# Altium footprint library DIP-R  0607.PCBLib: 42 footprints (part 2 of 3)
Each footprint in its own frame and in the unit in brackets; x right, y up, seen from the top. Pads: shape width x height; smd on the part's side, far side on the other; paste and mask are expansions set on the pad; w line width, h text height; cw(c..) or ccw(c..) is an arc to the next point about the centre after c.
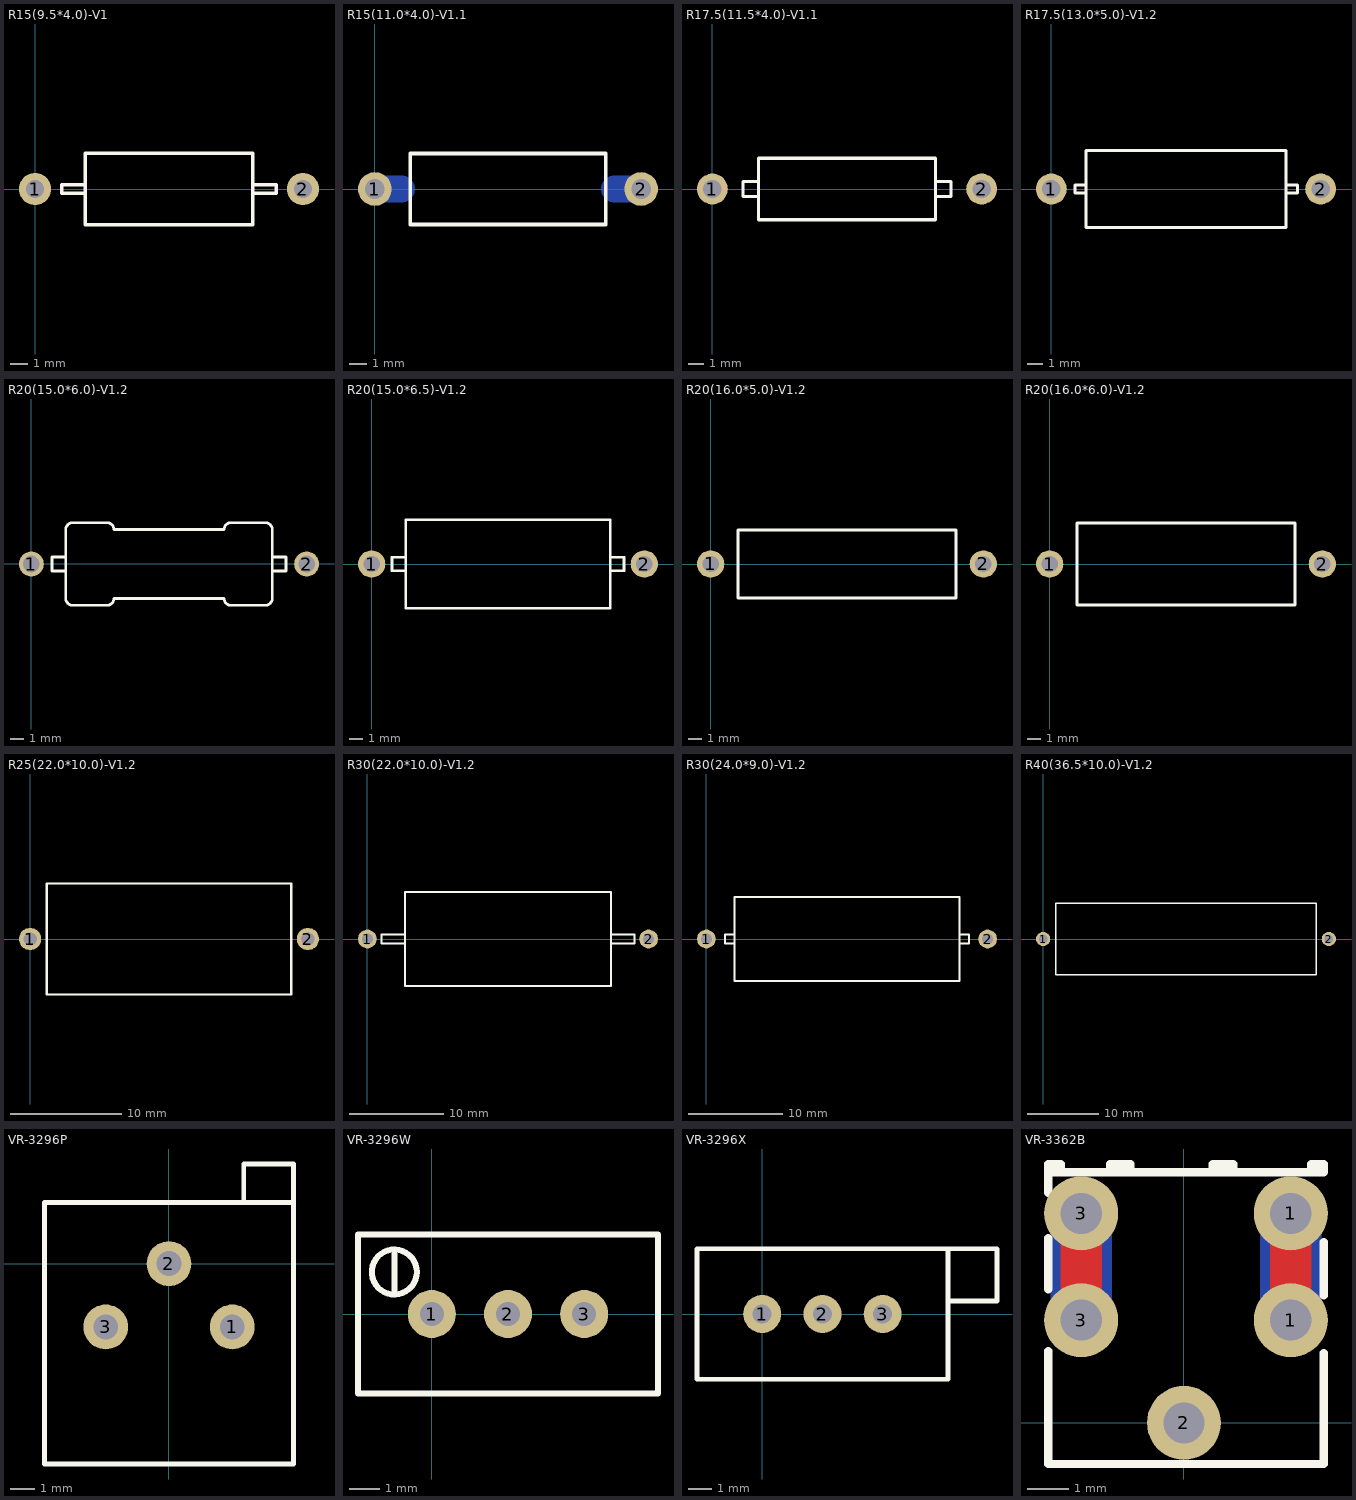
[diagram p1: the footprints below, top view; thin cyan lines are the x and y axes]

## R15(9.5*4.0)-V1 [mm]
height 3.8
pads (2):
  round 1.8 hole 1: 1(0,0) 2(15,0)
Top Overlay:
  lines w0.2: 2.8,-0.25 1.5,-0.25 1.5,0.25 2.8,0.25 ; 12.2,-0.25 13.5,-0.25 13.5,0.25 12.2,0.25 ; 2.8,-2 12.2,-2 12.2,2 2.8,2 2.8,-2

## R15(11.0*4.0)-V1.1 [mm]
height 3.8
pads (2):
  round 1.9 hole 1.1: 1(0,0) 2(15,0)
Bottom Layer:
  lines w1.5: 0,0 1.5,0 ; 13.5,0 15,0
Top Overlay:
  lines w0.2: 2,-2 2,2 13,2 13,-2 2,-2
Bottom Solder:
  lines w1: 0,0 1.5,0 ; 13.5,0 15,0

## R17.5(11.5*4.0)-V1.1 [mm]
height 3.8
pads (2):
  round 2 hole 1.2: 1(0,0) 2(17.5,0)
Top Overlay:
  lines w0.2: 3,-0.5 2,-0.5 2,0.5 3,0.5 ; 14.5,-0.5 15.5,-0.5 15.5,0.5 14.5,0.5 ; 3,-2 3,2 14.5,2 14.5,-2 3,-2

## R17.5(13.0*5.0)-V1.2 [mm]
height 5
pads (2):
  round 2 hole 1.2: 1(0,0) 2(17.5,0)
Top Overlay:
  lines w0.2: 2.25,-0.25 1.525,-0.25 1.525,0.25 2.25,0.25 ; 15.25,-0.25 16,-0.25 16,0.25 15.25,0.25 ; 2.25,-2.5 2.25,2.5 15.25,2.5 15.25,-2.5 2.25,-2.5

## R20(15.0*6.0)-V1.2 [mm]
pads (2):
  round 1.8 hole 1.2: 1(0,-0.005) 2(20,-0.005)
Top Overlay:
  lines w0.2: 2.5,-0.505 1.5,-0.505 1.5,0.495 2.5,0.495 ; 17.5,-0.505 18.5,-0.505 18.5,0.495 17.5,0.495 ; 2.5,-2.505 ccw(c3,-2.505) 3,-3.005 5.5,-3.005 ccw(c5.5,-2.505) 6,-2.505 14,-2.505 ccw(c14.5,-2.505) 14.5,-3.005 17,-3.005 ccw(c17,-2.505) 17.5,-2.505 17.5,2.495 ccw(c17,2.495) 17,2.995 14.5,2.995 ccw(c14.5,2.495) 14,2.495 6,2.495 ccw(c5.5,2.495) 5.5,2.995 3,2.995 ccw(c3,2.495) 2.5,2.495 2.5,-2.505

## R20(15.0*6.5)-V1.2 [mm]
pads (2):
  round 2 hole 1.2: 1(0,0) 2(20,0)
Top Overlay:
  lines w0.2: 2.5,-0.5 1.5,-0.5 1.5,0.5 2.5,0.5 ; 17.5,-0.5 18.5,-0.5 18.5,0.5 17.5,0.5 ; 2.5,-3.25 17.5,-3.25 17.5,3.25 2.5,3.25 2.5,-3.25

## R20(16.0*5.0)-V1.2 [mm]
pads (2):
  round 2 hole 1.2: 1(0.007,0.001) 2(20.007,0.001)
Top Overlay:
  lines w0.2: 2.007,-2.499 2.007,2.501 18.007,2.501 18.007,-2.499 2.007,-2.499

## R20(16.0*6.0)-V1.2 [mm]
height 5.4
pads (2):
  round 2 hole 1.2: 1(0,0) 2(20,0)
Top Overlay:
  lines w0.2: 2,-3 2,3 18,3 18,-3 2,-3

## R25(22.0*10.0)-V1.2 [mm]
height 9
pads (2):
  round 2 hole 1.2: 1(0,0) 2(25,0)
Top Overlay:
  lines w0.2: 1.5,-5 23.5,-5 23.5,5 1.5,5 1.5,-5

## R30(22.0*10.0)-V1.2 [mm]
height 9
pads (2):
  round 2 hole 1.2: 1(0,0) 2(30,0)
Top Overlay:
  lines w0.2: 4,-0.5 1.5,-0.5 1.5,0.5 4,0.5 ; 26,-0.5 28.5,-0.5 28.5,0.5 26,0.5 ; 4,-5 26,-5 26,5 4,5 4,-5

## R30(24.0*9.0)-V1.2 [mm]
pads (2):
  round 2 hole 1.2: 1(0,0) 2(30,0)
Top Overlay:
  lines w0.2: 3,-0.5 2,-0.5 2,0.5 3,0.5 ; 27,-0.5 28,-0.5 28,0.5 27,0.5 ; 3,-4.5 3,4.5 27,4.5 27,-4.5 3,-4.5

## R40(36.5*10.0)-V1.2 [mm]
height 9
pads (2):
  round 2 hole 1.2: 1(0,0) 2(40,0)
Top Overlay:
  lines w0.2: 1.75,-5 1.75,5 38.25,5 38.25,-5 1.75,-5

## VR-3296P [mm]
height 4.83
pads (3):
  round 1.8 hole 1: 1(2.54,-2.54) 2(0,0) 3(-2.54,-2.54)
Top Overlay:
  lines w0.2: 3,2.46 3,4 5,4 5,-8.04 -5,-8.04 -5,2.46 5,2.46

## VR-3296W [mm]
height 12
pads (3):
  round 1.6 hole 0.8: 1(0,0) 2(2.54,0) 3(5.08,0)
Top Overlay:
  circle w0.2: c-1.25,1.4 r0.75
  lines w0.2: -1.25,0.65 -1.25,2 ; -2.46,-2.65 7.54,-2.65 7.54,2.65 -2.46,2.65 -2.46,-2.65
Bottom Overlay:
  lines w0.5: 1.27,-0.8 1.27,0.8 ; 3.81,-0.8 3.81,0.8

## VR-3296X [mm]
height 10
pads (3):
  round 1.6 hole 0.8: 1(0,0) 2(2.54,0) 3(5.08,0)
Top Overlay:
  lines w0.2: 7.83,0.55 9.9,0.55 9.9,2.75 -2.75,2.75 -2.75,-2.75 7.83,-2.75 7.83,2.75
Bottom Overlay:
  lines w0.5: 1.27,-0.8 1.27,0.8 ; 3.81,-0.8 3.81,0.8

## VR-3362B [mm]
pads (5):
  round 1.8 hole 1: 1(2.6,2.5) 1(2.6,5.1) 2(0,0) 3(-2.5,2.5) 3(-2.5,5.1)
Top Layer:
  lines w1: -2.5,2.5 -2.5,5.1 ; 2.6,2.5 2.6,5.1
Bottom Layer:
  lines w1.5: -2.5,2.5 -2.5,5.1 ; 2.6,2.5 2.6,5.1
Top Overlay:
  lines w0.2: -3.3,1.75 -3.3,-1 3.4,-1 3.4,1.7 ; -3.3,3.25 -3.3,4.5 ; -3.3,5.6 -3.3,6.1 ; -3,6.1 -3,6.3 -3.3,6.3 -3.3,6.1 ; -1.8,6.1 -1.8,6.3 -1.3,6.3 -1.3,6.1 ; 0.7,6.1 0.7,6.3 1.2,6.3 1.2,6.1 ; 3.1,6.1 3.1,6.3 3.4,6.3 3.4,6.1 -3.3,6.1 ; 3.4,3.1 3.4,4.4